# EAGLE library part TMP451AQDQFRQ1 (library TexasInstruments)
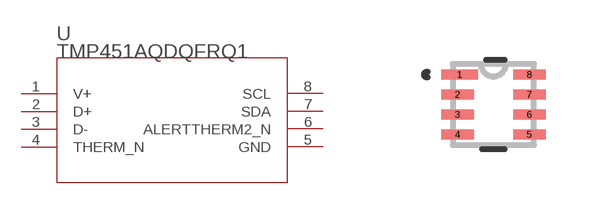
[diagram p15: symbol with the pads of DQF0008A_TEX; footprint DQF0008A_TEX]

Designator prefix U

## TMP451AQDQFRQ1 (COPYRIGHT: Copyright (C) 2023 Ultra Librarian. All rights reserved.; MANUFACTURER_PART_NUMBER: TMP451AQDQFRQ1; MFR_NAME: Texas Instruments)  [DQF0008A_TEX]
1  V+  pwr
2  D+  in
3  D-  in
4  THERM_N  out
5  GND  pwr
6  ALERTTHERM2_N  out
7  SDA
8  SCL  in

## Footprint DQF0008A_TEX (pad centres in mm)
smd 0.914 x 0.254: 1 -0.849,0.75
smd 0.813 x 0.254: 2 -0.9,0.25; 3 -0.9,-0.25; 4 -0.9,-0.75; 5 0.9,-0.75; 6 0.9,-0.25; 7 0.9,0.25; 8 0.9,0.75